# Altium footprint library DIP Button.PcbLib: 18 footprints (part 2 of 2)
Each footprint in its own frame and in the unit in brackets; x right, y up, seen from the top. Pads: shape width x height; smd on the part's side, far side on the other; paste and mask are expansions set on the pad; w line width, h text height; cw(c..) or ccw(c..) is an arc to the next point about the centre after c.
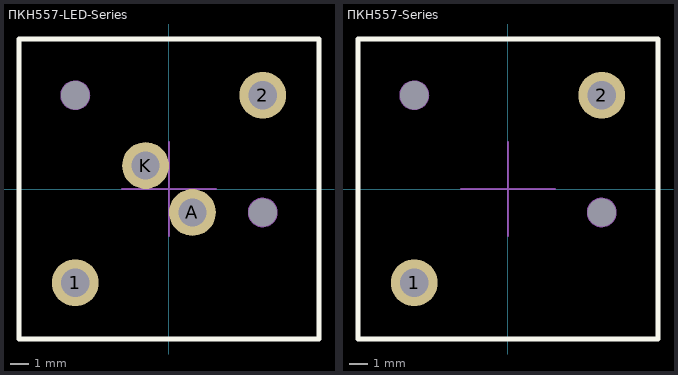
[diagram p1: the footprints below, top view; thin cyan lines are the x and y axes]

## ПКН557-LED-Series [mm]
height 16
pads (6):
  round 0 hole 1.5 unplated: 0(-5,5) 0(5,-1.25)
  round 2.5 hole 1.5: 1(-5,-5) 2(5,5) A(1.25,-1.25) K(-1.25,1.25)
Top Overlay:
  lines w0.25: -8,-8 -8,8 8,8 8,-8 -8,-8
Mechanical 13:
  lines w0.1: -8,-8 -8,8 8,8 8,-8 -8,-8
Mechanical 15:
  circle w0.1: c-5,5 r0.75
  circle w0.1: c5,-1.25 r0.75
  lines w0.1: -2.5,0 2.5,0 ; 0,-2.5 0,2.5 ; -8,-8 8,-8 8,8 -8,8 -8,-8

## ПКН557-Series [mm]
height 16
pads (4):
  round 0 hole 1.5 unplated: 0(-5,5) 0(5,-1.25)
  round 2.5 hole 1.5: 1(-5,-5) 2(5,5)
Top Overlay:
  lines w0.25: -8,-8 8,-8 8,8 -8,8 -8,-8
Mechanical 13:
  lines w0.1: -8,-8 -8,8 8,8 8,-8 -8,-8
Mechanical 15:
  circle w0.1: c5,-1.25 r0.75
  circle w0.1: c-5,5 r0.75
  lines w0.1: -2.5,0 2.5,0 ; 0,-2.5 0,2.5 ; -8,-8 -8,8 8,8 8,-8 -8,-8